# EAGLE library part ADM1191 (library microbuilder)
ADM1191 - I2C Digital Power Monitor 3.15V to 26V Operation 12-bit ADC Precision Current Sense Amplifier Precision Voltage Input Digikey: ADM1191-2ARMZ-R7TR-ND
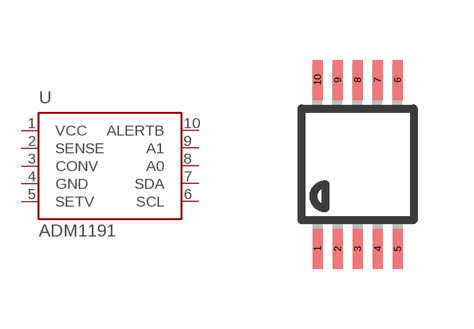
[diagram p59: symbol with the pads of MSOP10; footprint MSOP10]

Designator prefix U

## ADM1191  [MSOP10]
1  VCC
2  SENSE
3  CONV
4  GND
5  SETV
6  SCL
7  SDA
8  A0
9  A1
10  ALERTB

## Footprint MSOP10 (pad centres in mm)
10-Lead Mini Small Outline Package [MSOP]
smd 0.25 x 1: 1 -1,-2.113; 2 -0.5,-2.113; 3 0,-2.113; 4 0.5,-2.113; 5 1,-2.113; 6 1,2.113; 7 0.5,2.113; 8 0,2.113; 9 -0.5,2.113; 10 -1,2.113